# Altium footprint library 3-C-Ceramics.PcbLib: 89 footprints (part 5 of 6)
Each footprint in its own frame and in the unit in brackets; x right, y up, seen from the top. Pads: shape width x height; smd on the part's side, far side on the other; paste and mask are expansions set on the pad; w line width, h text height; cw(c..) or ccw(c..) is an arc to the next point about the centre after c.
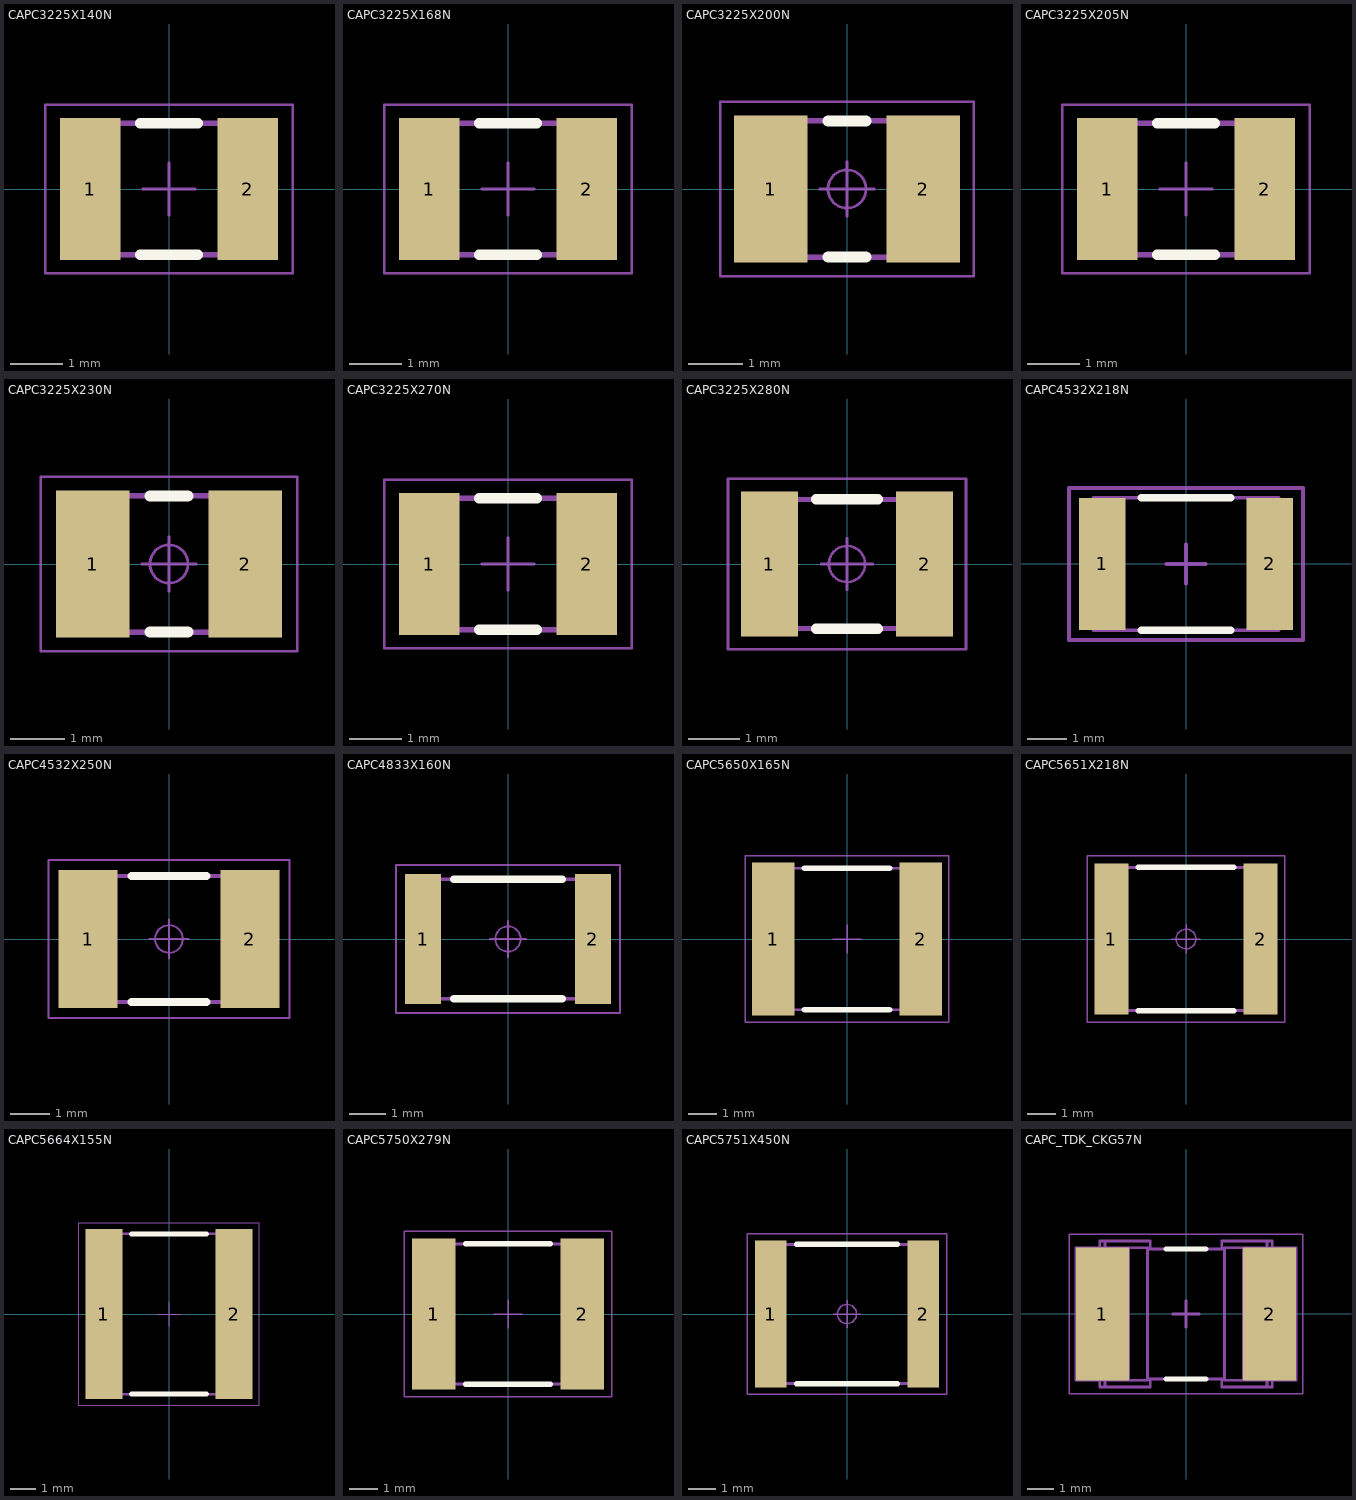
[diagram p4: the footprints below, top view; thin cyan lines are the x and y axes]

## CAPC3225X140N [mm] "Chip Capacitor, Body 3.2x2.5mm, IPC Medium Density"
height 1.4
pads (2):
  rect 1.15x2.7 smd: 1(-1.5,0) 2(1.5,0)
Top Overlay:
  lines w0.2: -0.55,-1.25 0.55,-1.25 ; -0.55,1.25 0.55,1.25
Mechanical 14:
  lines w0.1: -1.6,-1.25 -1.6,1.25 1.6,1.25 1.6,-1.25 -1.6,-1.25
Mechanical 15:
  lines w0.05: -0.5,0 0.5,0 ; 0,-0.5 0,0.5 ; -2.35,-1.6 2.35,-1.6 2.35,1.6 -2.35,1.6 -2.35,-1.6
3D body "p270-115.stp": height 0.02, standoff 0, extent 0.924,-1.35 2.074,1.35
3D body "p270-115.stp": height 0.02, standoff 0, extent -2.073,-1.35 -0.923,1.35
3D body "CAPC3225X140N.stp": height 1.4, standoff 0, extent -1.7,-1.35 1.7,1.35

## CAPC3225X168N [mm] "Chip Capacitor, Body 3.2x2.5mm, IPC Medium Density"
height 1.68
pads (2):
  rect 1.15x2.7 smd: 1(-1.5,0) 2(1.5,0)
Top Overlay:
  lines w0.2: -0.55,-1.25 0.55,-1.25 ; -0.55,1.25 0.55,1.25
Mechanical 14:
  lines w0.1: -1.6,-1.25 -1.6,1.25 1.6,1.25 1.6,-1.25 -1.6,-1.25
Mechanical 15:
  lines w0.05: -0.5,0 0,0 ; 0,-0.5 0,0 ; 0,0.5 0,0 ; 0.5,0 0,0 ; -2.35,-1.6 -2.35,1.6 2.35,1.6 2.35,-1.6 -2.35,-1.6
3D body "CAPC3225X168N.stp": height 1.68, standoff 0, extent -1.7,-1.35 1.7,1.35
3D body "p270-115.stp": height 0.02, standoff 0, extent 0.924,-1.35 2.074,1.35
3D body "p270-115.stp": height 0.02, standoff 0, extent -2.073,-1.35 -0.923,1.35

## CAPC3225X200N [mm] "Chip Capacitor, Body 3.2x2.5mm, IPC Medium Density"
height 2
pads (2):
  rect 1.35x2.7 smd: 1(-1.4,0) 2(1.4,0)
Top Overlay:
  lines w0.2: -0.35,-1.25 0.35,-1.25 ; -0.35,1.25 0.35,1.25
Mechanical 14:
  lines w0.1: -1.6,-1.25 1.6,-1.25 1.6,1.25 -1.6,1.25 -1.6,-1.25
Mechanical 15:
  circle w0.05: c0,0 r0.35
  lines w0.05: -0.5,0 0.5,0 ; 0,-0.5 0,0.5 ; -2.325,-1.6 2.325,-1.6 2.325,1.6 -2.325,1.6 -2.325,-1.6
3D body "p270-135.stp": height 0.02, standoff 0, extent 0.722,-1.35 2.072,1.35
3D body "p270-135.stp": height 0.02, standoff 0, extent -2.072,-1.35 -0.722,1.35
3D body "CAPC3225X200N.stp": height 2, standoff 0, extent -1.7,-1.35 1.5,1.35

## CAPC3225X205N [mm] "Chip Capacitor, Body 3.2x2.5mm, IPC Medium Density"
height 2.05
pads (2):
  rect 1.15x2.7 smd: 1(-1.5,0) 2(1.5,0)
Top Overlay:
  lines w0.2: -0.55,-1.25 0.55,-1.25 ; -0.55,1.25 0.55,1.25
Mechanical 14:
  lines w0.1: -1.6,-1.25 1.6,-1.25 1.6,1.25 -1.6,1.25 -1.6,-1.25
Mechanical 15:
  lines w0.05: -2.35,-1.6 -2.35,1.6 2.35,1.6 2.35,-1.6 -2.35,-1.6 ; -0.5,0 0.5,0 -0.5,0 ; 0,-0.5 0,0.5 0,-0.5
3D body "CAPC3225X205N.stp": height 2.05, standoff 0, extent -1.7,-1.35 1.7,1.35
3D body "p270-115.stp": height 0.02, standoff 0, extent 0.924,-1.35 2.074,1.35
3D body "p270-115.stp": height 0.02, standoff 0, extent -2.073,-1.35 -0.923,1.35

## CAPC3225X230N [mm] "Chip Capacitor, Body 3.2x2.5mm, IPC Medium Density"
height 2.3
pads (2):
  rect 1.35x2.7 smd: 1(-1.4,0) 2(1.4,0)
Top Overlay:
  lines w0.2: -0.35,-1.25 0.35,-1.25 ; -0.35,1.25 0.35,1.25
Mechanical 14:
  lines w0.1: -1.6,-1.25 -1.6,1.25 1.6,1.25 1.6,-1.25 -1.6,-1.25
Mechanical 15:
  circle w0.05: c0,0 r0.35
  lines w0.05: -0.5,0 0.5,0 ; 0,-0.5 0,0.5 ; -2.35,-1.6 -2.35,1.6 2.35,1.6 2.35,-1.6 -2.35,-1.6
3D body "CAPC3225X230N.stp": height 2.3, standoff 0, extent -1.7,-1.35 1.7,1.35
3D body "p270-135.stp": height 0.02, standoff 0, extent 0.722,-1.35 2.072,1.35
3D body "p270-135.stp": height 0.02, standoff 0, extent -2.072,-1.35 -0.722,1.35

## CAPC3225X270N [mm] "Chip Capacitor, Body 3.2x2.5mm, IPC Medium Density"
height 2.7
pads (2):
  rect 1.15x2.7 smd: 1(-1.5,0) 2(1.5,0)
Top Overlay:
  lines w0.2: -0.55,-1.25 0.55,-1.25 ; -0.55,1.25 0.55,1.25
Mechanical 14:
  lines w0.1: -1.6,-1.25 -1.6,1.25 1.6,1.25 1.6,-1.25 -1.6,-1.25
Mechanical 15:
  lines w0.05: -2.35,-1.6 2.35,-1.6 2.35,1.6 -2.35,1.6 -2.35,-1.6 ; -0.5,0 0.5,0 -0.5,0 ; 0,-0.5 0,0.5 0,-0.5
3D body "p270-115.stp": height 0.02, standoff 0, extent -2.073,-1.35 -0.923,1.35
3D body "p270-115.stp": height 0.02, standoff 0, extent 0.924,-1.35 2.074,1.35
3D body "CAPC3225X270N.stp": height 2.7, standoff 0, extent -1.7,-1.35 1.7,1.35

## CAPC3225X280N [mm] "Chip Capacitor, Body 3.2x2.5mm, IPC Medium Density"
height 2.8
pads (2):
  rect 1.1x2.8 smd: 1(-1.5,0) 2(1.5,0)
Top Overlay:
  lines w0.2: -0.6,-1.25 0.6,-1.25 ; -0.6,1.25 0.6,1.25
Mechanical 14:
  lines w0.1: -1.6,-1.25 -1.6,1.25 1.6,1.25 1.6,-1.25 -1.6,-1.25
Mechanical 15:
  circle w0.05: c0,0 r0.35
  lines w0.05: -0.5,0 0.5,0 ; 0,-0.5 0,0.5 ; -2.3,-1.65 -2.3,1.65 2.3,1.65 2.3,-1.65 -2.3,-1.65
3D body "p280-110.stp": height 0.02, standoff 0, extent -2.048,-1.4 -0.948,1.4
3D body "p280-110.stp": height 0.02, standoff 0, extent 0.949,-1.4 2.049,1.4
3D body "CAPC3225X280N.stp": height 2.8, standoff 0, extent -1.7,-1.35 1.7,1.35

## CAPC4532X218N [mm] "Chip Capacitor, 2-Leads, Body 4.5x3.2mm, IPC Medium Density"
height 2.18
pads (2):
  rect 1.2x3.4 smd: 1(-2.15,0) 2(2.15,0)
Top Overlay:
  lines w0.2: -1.15,-1.7 1.15,-1.7 ; -1.15,1.7 1.15,1.7
Mechanical 14:
  lines w0.1: -2.375,-1.7 -2.375,1.7 2.375,1.7 2.375,-1.7 -2.375,-1.7
Mechanical 15:
  lines w0.1: -0.5,0 0.5,0 ; 0,-0.5 0,0.5 ; -3,-1.95 -3,1.95 3,1.95 3,-1.95 -3,-1.95
3D body "p340-120.stp": height 0.02, standoff 0, extent -2.759,-1.7 -1.559,1.7
3D body "p340-120.stp": height 0.02, standoff 0, extent 1.559,-1.7 2.759,1.7
3D body "CAPC4532X218N.stp": height 2.18, standoff 0, extent -2.375,-1.7 2.375,1.7

## CAPC4532X250N [mm] "Chip Capacitor, 2-Leads, Body 4.5x3.2mm, IPC Medium Density"
height 2.5
pads (2):
  rect 1.5x3.5 smd: 1(-2.05,0) 2(2.05,0)
Top Overlay:
  lines w0.2: -0.95,-1.6 0.95,-1.6 ; -0.95,1.6 0.95,1.6
Mechanical 14:
  lines w0.1: -2.25,-1.6 2.25,-1.6 2.25,1.6 -2.25,1.6 -2.25,-1.6
Mechanical 15:
  circle w0.05: c0,0 r0.35
  lines w0.05: -0.5,0 0.5,0 ; 0,-0.5 0,0.5 ; -3.05,-2 3.05,-2 3.05,2 -3.05,2 -3.05,-2
3D body "p350-150.stp": height 0.02, standoff 0, extent -2.807,-1.75 -1.307,1.75
3D body "p350-150.stp": height 0.02, standoff 0, extent 1.308,-1.75 2.807,1.75
3D body "CAPC4532X250N.stp": height 2.5, standoff 0, extent -2.375,-1.7 2.375,1.7

## CAPC4833X160N [mm] "Chip Capacitor, 2-Leads, Body 4.8x3.3mm, IPC Medium Density"
height 1.6
pads (2):
  rect 1x3.6 smd: 1(-2.35,0) 2(2.35,0)
Top Overlay:
  lines w0.2: -1.5,-1.65 1.5,-1.65 ; -1.5,1.65 1.5,1.65
Mechanical 14:
  lines w0.1: -2.4,-1.65 -2.4,1.65 2.4,1.65 2.4,-1.65 -2.4,-1.65
Mechanical 15:
  circle w0.05: c0,0 r0.35
  lines w0.05: -0.5,0 0.5,0 ; 0,-0.5 0,0.5 ; -3.1,-2.05 -3.1,2.05 3.1,2.05 3.1,-2.05 -3.1,-2.05
3D body "p360-100.stp": height 0.02, standoff 0, extent -2.862,-1.8 -1.862,1.8
3D body "p360-100.stp": height 0.02, standoff 0, extent 1.862,-1.8 2.862,1.8
3D body "CAPC4833X160N.stp": height 1.6, standoff 0, extent -2.4,-1.65 2.4,1.65

## CAPC5650X165N [mm] "Chip Capacitor, 2-Leads,Body 5.6x5mm, IPC Medium Density"
height 1.65
pads (2):
  rect 1.5x5.4 smd: 1(-2.6,0) 2(2.6,0)
Top Overlay:
  lines w0.2: -1.5,-2.5 1.5,-2.5 ; -1.5,2.5 1.5,2.5
Mechanical 14:
  lines w0.1: -2.8,-2.5 -2.8,2.5 2.8,2.5 2.8,-2.5 -2.8,-2.5
Mechanical 15:
  lines w0.05: -0.5,0 0.5,0 ; 0,-0.5 0,0.5 ; -3.6,-2.95 -3.6,2.95 3.6,2.95 3.6,-2.95 -3.6,-2.95
3D body "p540-150.stp": height 0.02, standoff 0, extent -3.341,-2.7 -1.841,2.7
3D body "p540-150.stp": height 0.02, standoff 0, extent 1.841,-2.7 3.341,2.7
3D body "CAPC5650X165N.stp": height 1.65, standoff 0, extent -3,-2.7 3,2.7

## CAPC5651X218N [mm] "Chip Capacitor, 2-Leads,Body 5.6x5.1mm, IPC Medium Density"
height 2.18
pads (2):
  rect 1.2x5.35 smd: 1(-2.65,0) 2(2.65,0)
Top Overlay:
  lines w0.2: -1.7,-2.55 1.7,-2.55 ; -1.7,2.55 1.7,2.55
Mechanical 14:
  lines w0.1: -2.795,-2.54 -2.795,2.54 2.795,2.54 2.795,-2.54 -2.795,-2.54
Mechanical 15:
  circle w0.05: c0,0 r0.35
  lines w0.05: -0.5,0 0.5,0 ; 0,-0.5 0,0.5 ; -3.5,-2.95 -3.5,2.95 3.5,2.95 3.5,-2.95 -3.5,-2.95
3D body "p535-120.stp": height 0.02, standoff 0, extent -3.267,-2.675 -2.067,2.675
3D body "p535-120.stp": height 0.02, standoff 0, extent 2.067,-2.675 3.267,2.675
3D body "CAPC5651X218N.stp": height 2.18, standoff 0, extent -2.795,-2.54 2.795,2.54

## CAPC5664X155N [mm] "Chip Capacitor, 2-Leads, Body 5.6x6.4mm, IPC Medium Density"
height 1.55
pads (2):
  rect 1.5x6.8 smd: 1(-2.6,0) 2(2.6,0)
Top Overlay:
  lines w0.2: -1.5,-3.2 1.5,-3.2 ; -1.5,3.2 1.5,3.2
Mechanical 14:
  lines w0.1: -2.8,-3.2 2.8,-3.2 2.8,3.2 -2.8,3.2 -2.8,-3.2
Mechanical 15:
  lines w0.05: -0.5,0 0.5,0 ; 0,-0.5 0,0.5 ; -3.6,-3.65 3.6,-3.65 3.6,3.65 -3.6,3.65 -3.6,-3.65
3D body "p680-150.stp": height 0.02, standoff 0, extent -3.366,-3.4 -1.866,3.4
3D body "p680-150.stp": height 0.02, standoff 0, extent 1.866,-3.4 3.366,3.4
3D body "CAPC5664X155N.stp": height 1.55, standoff 0, extent -3,-3.4 3,3.4

## CAPC5750X279N [mm] "Chip Capacitor, 2-Leads, Body 5.7x5.0mm, IPC Medium Density"
height 2.79
pads (2):
  rect 1.55x5.4 smd: 1(-2.65,0) 2(2.65,0)
Top Overlay:
  lines w0.2: -1.5,-2.5 1.5,-2.5 ; -1.5,2.5 1.5,2.5
Mechanical 14:
  lines w0.1: -2.85,-2.5 2.85,-2.5 2.85,2.5 -2.85,2.5 -2.85,-2.5
Mechanical 15:
  lines w0.05: -0.5,0 0.5,0 ; 0,-0.5 0,0.5 ; -3.7,-2.95 3.7,-2.95 3.7,2.95 -3.7,2.95 -3.7,-2.95
3D body "CAPC5750X279N.stp": height 2.79, standoff 0, extent -3.05,-2.7 3.05,2.7
3D body "p540-155.stp": height 0.02, standoff 0, extent 1.867,-2.7 3.417,2.7
3D body "p540-155.stp": height 0.02, standoff 0, extent -3.442,-2.7 -1.892,2.7

## CAPC5751X450N [mm] "Chip Capacitor, 2-Leads,Body 5.7x5.1mm, IPC Medium Density"
height 4.5
pads (2):
  rect 1.15x5.4 smd: 1(-2.8,0) 2(2.8,0)
Top Overlay:
  lines w0.2: -1.85,-2.55 1.85,-2.55 ; -1.85,2.55 1.85,2.55
Mechanical 14:
  lines w0.1: -2.85,-2.55 2.85,-2.55 2.85,2.55 -2.85,2.55 -2.85,-2.55
Mechanical 15:
  circle w0.05: c0,0 r0.35
  lines w0.05: -0.5,0 0.5,0 ; 0,-0.5 0,0.5 ; -3.65,-2.95 3.65,-2.95 3.65,2.95 -3.65,2.95 -3.65,-2.95
3D body "CAPC5751X450N.stp": height 4.5, standoff 0, extent -2.85,-2.55 2.85,2.55
3D body "p540-115.stp": height 0.02, standoff 0, extent 2.219,-2.7 3.369,2.7
3D body "p540-115.stp": height 0.02, standoff 0, extent -3.394,-2.7 -2.244,2.7

## CAPC_TDK_CKG57N [mm] "Multilayer Ceramic Chip Capacitors - Stacked Cap - TDK CKG57N Serie"
height 5.5
pads (2):
  rect 2x5 smd: 1(-3.15,0) 2(3.15,0)
Top Overlay:
  lines w0.2: -0.75,-2.45 0.75,-2.45 ; -0.75,2.45 0.75,2.45
Mechanical 8:
  lines w0.1: -3.65,0 -3.15,0 ; -3.15,-0.5 -3.15,0 ; -3.15,0.5 -3.15,0 ; -2.65,0 -3.15,0 ; -0.5,0 0,0 ; 0,-0.5 0,0 ; 0,0.5 0,0 ; 0.5,0 0,0 ; 2.65,0 3.15,0 ; 3.15,-0.5 3.15,0 ; 3.15,0.5 3.15,0 ; 3.65,0 3.15,0 ; -4.15,-2.5 -2.15,-2.5 -2.15,2.5 -4.15,2.5 -4.15,-2.5 ; 2.15,-2.5 4.15,-2.5 4.15,2.5 2.15,2.5 2.15,-2.5
Mechanical 14:
  lines w0.1: -3.05,-2.75 -3.05,2.75 ; -3.05,-2.4 ccw(c-2.95,-2.4) -2.95,-2.5 -1.45,-2.5 -1.45,2.5 -2.95,2.5 ccw(c-2.95,2.4) -3.05,2.4 ; -1.45,-2.45 1.45,-2.45 ; -1.45,2.45 1.45,2.45 ; -1.35,-2.45 -1.35,-2.75 -3.25,-2.75 -3.25,2.75 -1.35,2.75 -1.35,2.45 ; 1.35,-2.45 1.35,-2.75 3.25,-2.75 3.25,2.75 1.35,2.75 1.35,2.45 ; 3.05,-2.75 3.05,2.75 ; 3.05,-2.4 cw(c2.95,-2.4) 2.95,-2.5 1.45,-2.5 1.45,2.5 2.95,2.5 cw(c2.95,2.4) 3.05,2.4
Mechanical 15:
  lines w0.05: -4.4,-3 -4.4,3 4.4,3 4.4,-3 -4.4,-3
3D body "CAPC_TDK_CKG57N.stp": height 5.5, standoff 0, extent -3.25,-2.75 3.25,2.75
3D body "p500-200.stp": height 0.02, standoff 0, extent 2.15,-2.5 4.15,2.5
3D body "p500-200.stp": height 0.02, standoff 0, extent -4.149,-2.5 -2.149,2.5